# Altium schematic symbol library Potentiometer SMD.SchLib: 1 symbol
Pins are listed as number, name and electrical type; pins without a type are passive.

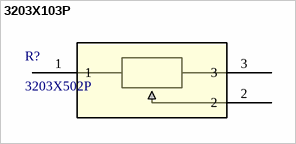
[diagram p0: symbol 3203X103P]

## 3203X103P
designator R?, comment 3203X502P
No Description Available; Mfr_Name: TE Connectivity; Copyright: Copyright (C) 2024 Ultra Librarian. All rights reserved.; Manufacturer_Part_Number: 3203X502P; RefDes: RefDes; Type: DEV
footprint 3203X103P
pins: 1, 2, 3